# Altium schematic symbol library SKY13446-374LF.Schlib: 1 symbol
Pins are listed as number, name and electrical type; pins without a type are passive.

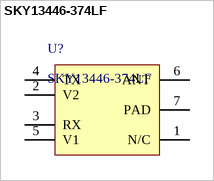
[diagram p0: symbol SKY13446-374LF]

## SKY13446-374LF
designator U?
RF Switch IC WLAN 6 GHz 50Ohm 6-MLPD (1.5x1.5)
pins: 1 N/C, 2 V2, 3 RX, 4 TX, 5 V1, 6 ANT, 7 PAD